# EAGLE library part A3982SLBTR-T (library A3982SLBTR-T)
Dual 1.5 Full Bridge Motor Driver Source: Datasheet <http://www.allegromicro.com/~/media/files/datasheets/a3982-datasheet.pdf>
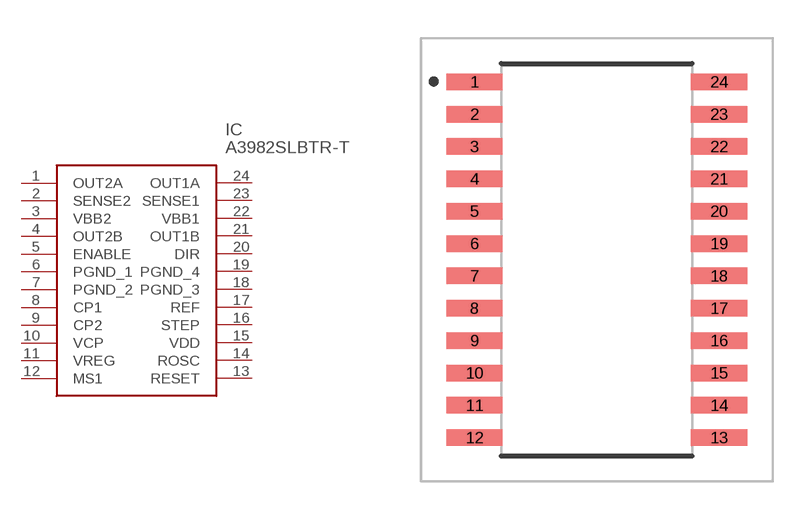
[diagram p0: symbol with the pads of A3959SLBTRT; footprint A3959SLBTRT]

Designator prefix IC

## A3982SLBTR-T (Arrow_Part_Number: A3982SLBTR-T; Arrow_Price-Stock: null?region=nac; Description: Dual 1.5 Full Bridge Motor Driver; Height: 2.65mm; Manufacturer_Name: Allegro Microsystems; Manufacturer_Part_Number: A3982SLBTR-T; Mouser_Part_Number: 250-A3982SLBTR-T; Mouser_Price-Stock: https://www.mouser.co.uk/ProductDetail/Allegro-MicroSystems/A3982SLBTR-T?qs=pUKx8fyJudCul96RMluRVw%3D%3D)  [A3959SLBTRT]
1  OUT2A
2  SENSE2
3  VBB2
4  OUT2B
5  ENABLE
6  PGND_1
7  PGND_2
8  CP1
9  CP2
10  VCP
11  VREG
12  MS1
13  RESET
14  ROSC
15  VDD
16  STEP
17  REF
18  PGND_3
19  PGND_4
20  DIR
21  OUT1B
22  VBB1
23  SENSE1
24  OUT1A

## Footprint A3959SLBTRT (pad centres in mm)
LB 24-pin SOICW
smd 2.2 x 0.65: 1 -4.8,6.985; 2 -4.8,5.715; 3 -4.8,4.445; 4 -4.8,3.175; 5 -4.8,1.905; 6 -4.8,0.635; 7 -4.8,-0.635; 8 -4.8,-1.905; 9 -4.8,-3.175; 10 -4.8,-4.445; 11 -4.8,-5.715; 12 -4.8,-6.985; 13 4.8,-6.985; 14 4.8,-5.715; 15 4.8,-4.445; 16 4.8,-3.175; 17 4.8,-1.905; 18 4.8,-0.635; 19 4.8,0.635; 20 4.8,1.905; 21 4.8,3.175; 22 4.8,4.445; 23 4.8,5.715; 24 4.8,6.985